# Altium schematic symbol library TPS7A90.SchLib: 1 symbol
Pins are listed as number, name and electrical type; pins without a type are passive.

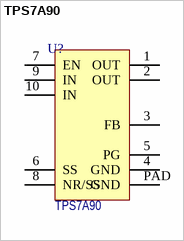
[diagram p0: symbol TPS7A90]

## TPS7A90
designator U?
500-mA LDO regulator; Потребление: 0.0; Назначение: 500-mA LDO regulator; Наименование: TPS7A90
footprint WSON-10_EPAD_2.5x2.5 (WSON 10 pin, 0.5mm pitch, Exposed Pad, 2.5mm x 2.5mm, 0.8mm height)
pins: 1 OUT, 2 OUT, 3 FB, 4 GND, 5 PG, 6 SS, 7 EN, 8 NR/SS, 9 IN, 10 IN, PAD GND